# EAGLE library part FHS60P (library LEM)
CAN Tranceiver
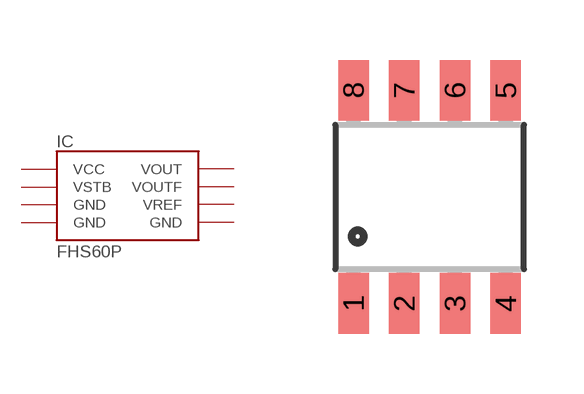
[diagram p2: symbol with the pads of SO08_LEM; footprint SO08_LEM]

Designator prefix IC

## FHS60P  [SO08_LEM]
1  VREF
2  VOUT
3  GND
4  VCC
5  GND
6  GND
7  VSTB
8  VOUTF

## Footprint SO08_LEM (pad centres in mm)
Small Outline Package Fits JEDEC packages (narrow SOIC-8)
smd 0.762 x 1.524: 1 -1.905,-2.667; 2 -0.635,-2.667; 3 0.635,-2.667; 4 1.905,-2.667; 5 1.905,2.667; 6 0.635,2.667; 7 -0.635,2.667; 8 -1.905,2.667